# EAGLE library part THL_20WI_SERIES (library TRACO_THL_TEL_Series)
TRACO POWER DC/DC converter THL 20WI Series created by Mario Blunk - electronics & IT engineering at www.train-z.de
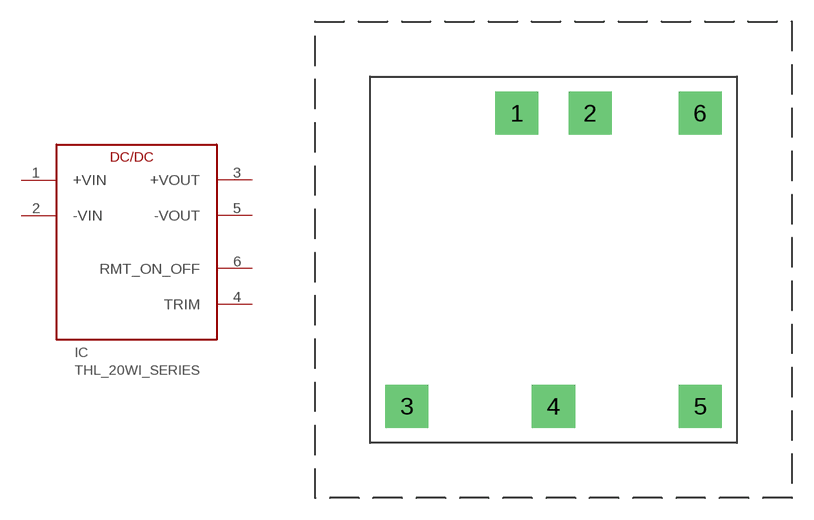
[diagram p0: symbol with the pads of THL_20WI_SERIES; footprint THL_20WI_SERIES]

Designator prefix IC

## THL_20WI_SERIES (HEAT-SINK: NO)  [THL_20WI_SERIES]
1  +VIN  in
2  -VIN  in
3  +VOUT  pas
4  TRIM  in
5  -VOUT  pas
6  RMT_ON_OFF  in

## Footprint THL_20WI_SERIES (pad centres in mm)
TRACO POWER DC/DC converter THL 20WI Series created by Mario Blunk - electronics & IT engineering at www.train-z.de
drill 1.5 pad 3 square: 1 -2.54,10.16; 2 2.54,10.16; 3 -10.16,-10.16; 4 0,-10.16; 5 10.16,-10.16; 6 10.16,10.16